# Altium schematic symbol library IC_Texas_Instruments_LM321LVIDBVR.SchLib: 1 symbol
Pins are listed as number, name and electrical type; pins without a type are passive.

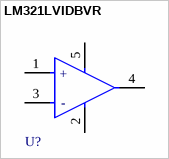
[diagram p0: symbol LM321LVIDBVR]

## LM321LVIDBVR
designator U?  (value not drawn)
IC OPAMP GP 1 CIRCUIT SOT23-5; Part Number: LM321LVIDBVR; Supplier 1: Mouser; Supplier Part Number 1: 595-LM321LVIDBVR
footprint Texas_Instruments_LM321LVIDBVR_MFG
pins: 1 IN+ (hiz), 2 V- (power), 3 IN- (hiz), 4 OUT, 5 V+ (power)
text: +; -